# Altium schematic symbol library SCH - POWER - LINEAR VREG - TI TPS7B6701-Q1PWP.SchLib: 1 symbol
Pins are listed as number, name and electrical type; pins without a type are passive.

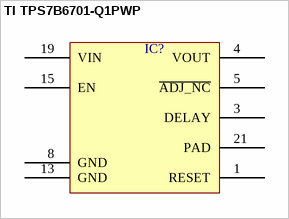
[diagram p0: symbol TI TPS7B6701-Q1PWP]

## TI TPS7B6701-Q1PWP
designator IC?  (value not drawn)
pins: 1 RESET, 3 DELAY, 4 VOUT, 5 ~{ADJ_NC}, 8 GND, 13 GND, 15 EN, 19 VIN, 21 PAD